# EAGLE library part RT7299BHGQW (library RT7299BHGQW)
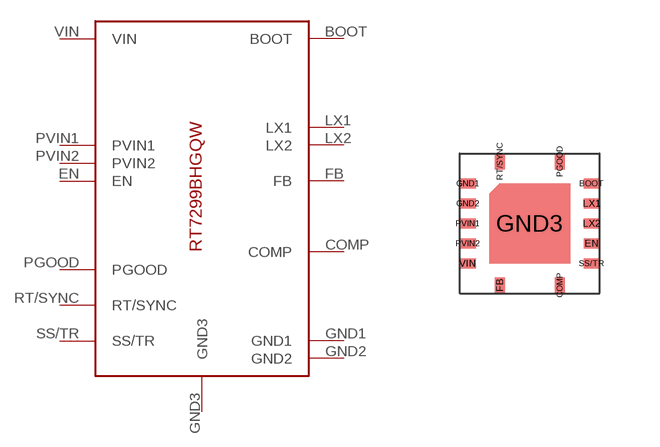
[diagram p0: symbol with the pads of RT7299BHGQW; footprint RT7299BHGQW]

Designator prefix -

## RT7299BHGQW  [RT7299BHGQW]
BOOT  BOOT
COMP  COMP
EN  EN
FB  FB
GND1  GND1
GND2  GND2
GND3  GND3
LX1  LX1
LX2  LX2
PGOOD  PGOOD
PVIN1  PVIN1
PVIN2  PVIN2
RT/SYNC  RT/SYNC
SS/TR  SS/TR
VIN  VIN

## Footprint RT7299BHGQW (pad centres in mm)
smd 0.4 x 0.25: BOOT 1.55,1; EN 1.55,-0.5; GND1 -1.55,1; GND2 -1.55,0.5; LX1 1.55,0.5; LX2 1.55,0; PVIN1 -1.55,0; PVIN2 -1.55,-0.5; SS/TR 1.55,-1; VIN -1.55,-1
smd 0.25 x 0.4: COMP 0.75,-1.55; FB -0.75,-1.55; PGOOD 0.75,1.55; RT/SYNC -0.75,1.55
smd 1.27 x 0.635: GND3 0,-0.01